# Altium schematic symbol library TLV803.SchLib: 1 symbol
Pins are listed as number, name and electrical type; pins without a type are passive.

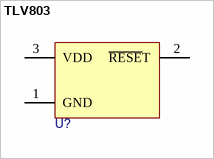
[diagram p0: symbol TLV803]

## TLV803
designator U?
pins: 1 GND, 2 ~{RESE}T, 3 VDD